# Altium schematic symbol library TQP3M9009.SchLib: 1 symbol
Pins are listed as number, name and electrical type; pins without a type are passive.

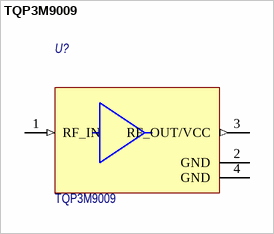
[diagram p0: symbol TQP3M9009]

## TQP3M9009
designator U?, comment Название: TQP3M9009  (hidden comment: High Linearity LNA Gain Block)
Потребление, Вт: 0.5; Назначение: High Linearity LNA Gain Block; ComponentLink1Description: DataSheet; ComponentLink1URL: https://ru.mouser.com/datasheet/2/412/TQP3M9009-189509.pdf
footprint SOT89 (SOT89, 3-Leads, Body 4,50x2,45mm, Pitch 1,50mm, Lead Span 4,1mm, IPC Medium Density)
pins: 1 RF_IN (in), 2 GND (power), 3 RF_OUT/VCC (out), 4 GND (power)